# Altium footprint library DipSwitch.PcbLib: 2 footprints
Each footprint in its own frame and in the unit in brackets; x right, y up, seen from the top. Pads: shape width x height; smd on the part's side, far side on the other; paste and mask are expansions set on the pad; w line width, h text height; cw(c..) or ccw(c..) is an arc to the next point about the centre after c.
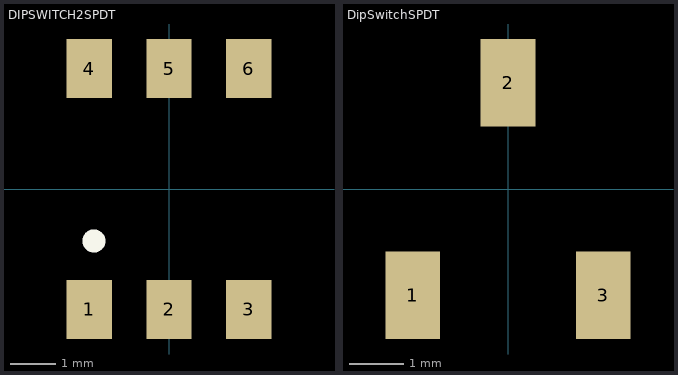
[diagram p0: the footprints below, top view; thin cyan lines are the x and y axes]

## DIPSWITCH2SPDT [mm]
pads (6):
  rect 1x1.3 smd: 1(-1.75,-2.65) 2(0,-2.65) 3(1.75,-2.65) 4(-1.75,2.65) 5(0,2.65) 6(1.75,2.65)
Top Overlay:
  circle w0.254: c-1.651,-1.143 r0.127

## DipSwitchSPDT [mm]
pads (3):
  rect 1x1.6 smd: 1(-1.75,-1.95) 2(0,1.95) 3(1.75,-1.95)